# EAGLE library part 444VD/VR21025816 (library Eagle_SWITCHES (rev18c))
6.8x4.5 mm SMD illuminated WS-TASL, 6 pins <http://katalog.we-online.de/media/images/v2/Family_WS_TLS_Illuminated_444xx21025816_pf2.jpg> Details see: http://katalog.we-online.de/en/em/TASL_6_8X4_5_SMD 2015 (C) Wurth Elektronik
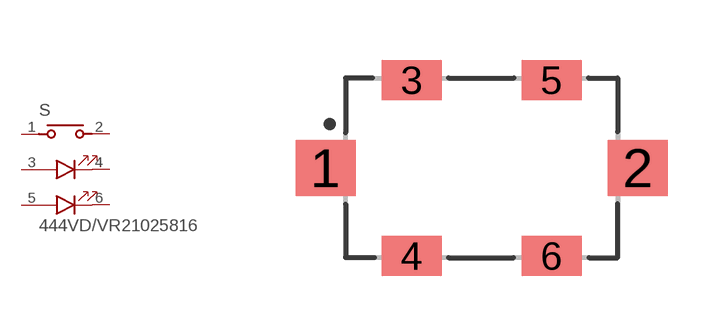
[diagram p88: symbol with the pads of 444VD/VR21025816; footprint 444VD/VR21025816]

Designator prefix S

## 444VD/VR21025816  [444VD/VR21025816]
1  1  pas
2  2  pas
3  LED1+  pas
4  LED1-  pas
5  LED2+  pas
6  LED2-  pas

## Footprint 444VD/VR21025816 (pad centres in mm)
WS-TLS 6,8*4,5mm Tact Switch with integrated LED, SMD version, 6 pins
smd 1.5 x 1.4: 1 -3.9,0; 2 3.9,0
smd 1.5 x 1: 3 -1.75,2.2; 4 -1.75,-2.2; 5 1.75,2.2; 6 1.75,-2.2